# Altium schematic symbol library Transformer_DPDS.SchLib: 1 symbol
Pins are listed as number, name and electrical type; pins without a type are passive.

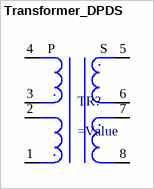
[diagram p0: symbol Transformer_DPDS]

## Transformer_DPDS
designator TR?
pins: 1 IN, 2 IN, 3 IN, 4 IN, 5 IN, 6 IN, 7 IN, 8 IN
text: P; S